# EAGLE library part 256-409/000-009 (library con-wago_256)
Serie 256, Stand: 01.01.2012. Die jeweils aktuellen Daten zu diesem Artikel finden Sie in unserem Produktkatalog, den Sie unter www.wago.com einsehen können. As of: 01/01/2012. Please find the newest data for this article in our product catalogue, which can be viewed under www.wago.com.
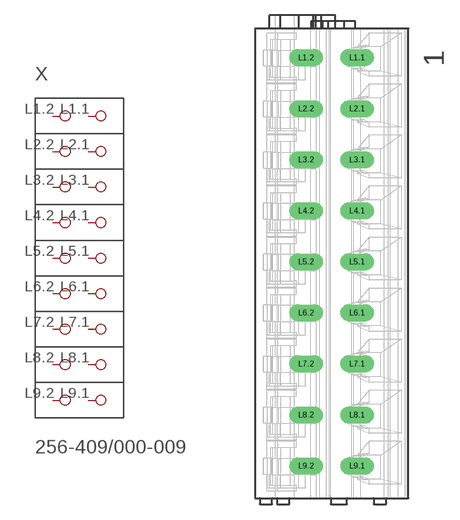
[diagram p213: symbol with the pads of P-256-409; footprint P-256-409]

Designator prefix X

## 256-409/000-009  [P-256-409]
L1.1  P1.1
L1.2  P1.2
L2.1  P2.1
L2.2  P2.2
L3.1  P3.1
L3.2  P3.2
L4.1  P4.1
L4.2  P4.2
L5.1  P5.1
L5.2  P5.2
L6.1  P6.1
L6.2  P6.2
L7.1  P7.1
L7.2  P7.2
L8.1  P8.1
L8.2  P8.2
L9.1  P9.1
L9.2  P9.2

## Footprint P-256-409 (pad centres in mm)
drill 1.1 long: L1.1 2.485,19.8; L1.2 -2.515,19.8; L2.1 2.485,14.8; L2.2 -2.515,14.8; L3.1 2.485,9.8; L3.2 -2.515,9.8; L4.1 2.485,4.8; L4.2 -2.515,4.8; L5.1 2.485,-0.2; L5.2 -2.515,-0.2; L6.1 2.485,-5.2; L6.2 -2.515,-5.2; L7.1 2.485,-10.2; L7.2 -2.515,-10.2; L8.1 2.485,-15.2; L8.2 -2.515,-15.2; L9.1 2.485,-20.2; L9.2 -2.515,-20.2